# Altium footprint library Cap.PcbLib: 11 footprints
Each footprint in its own frame and in the unit in brackets; x right, y up, seen from the top. Pads: shape width x height; smd on the part's side, far side on the other; paste and mask are expansions set on the pad; w line width, h text height; cw(c..) or ccw(c..) is an arc to the next point about the centre after c.
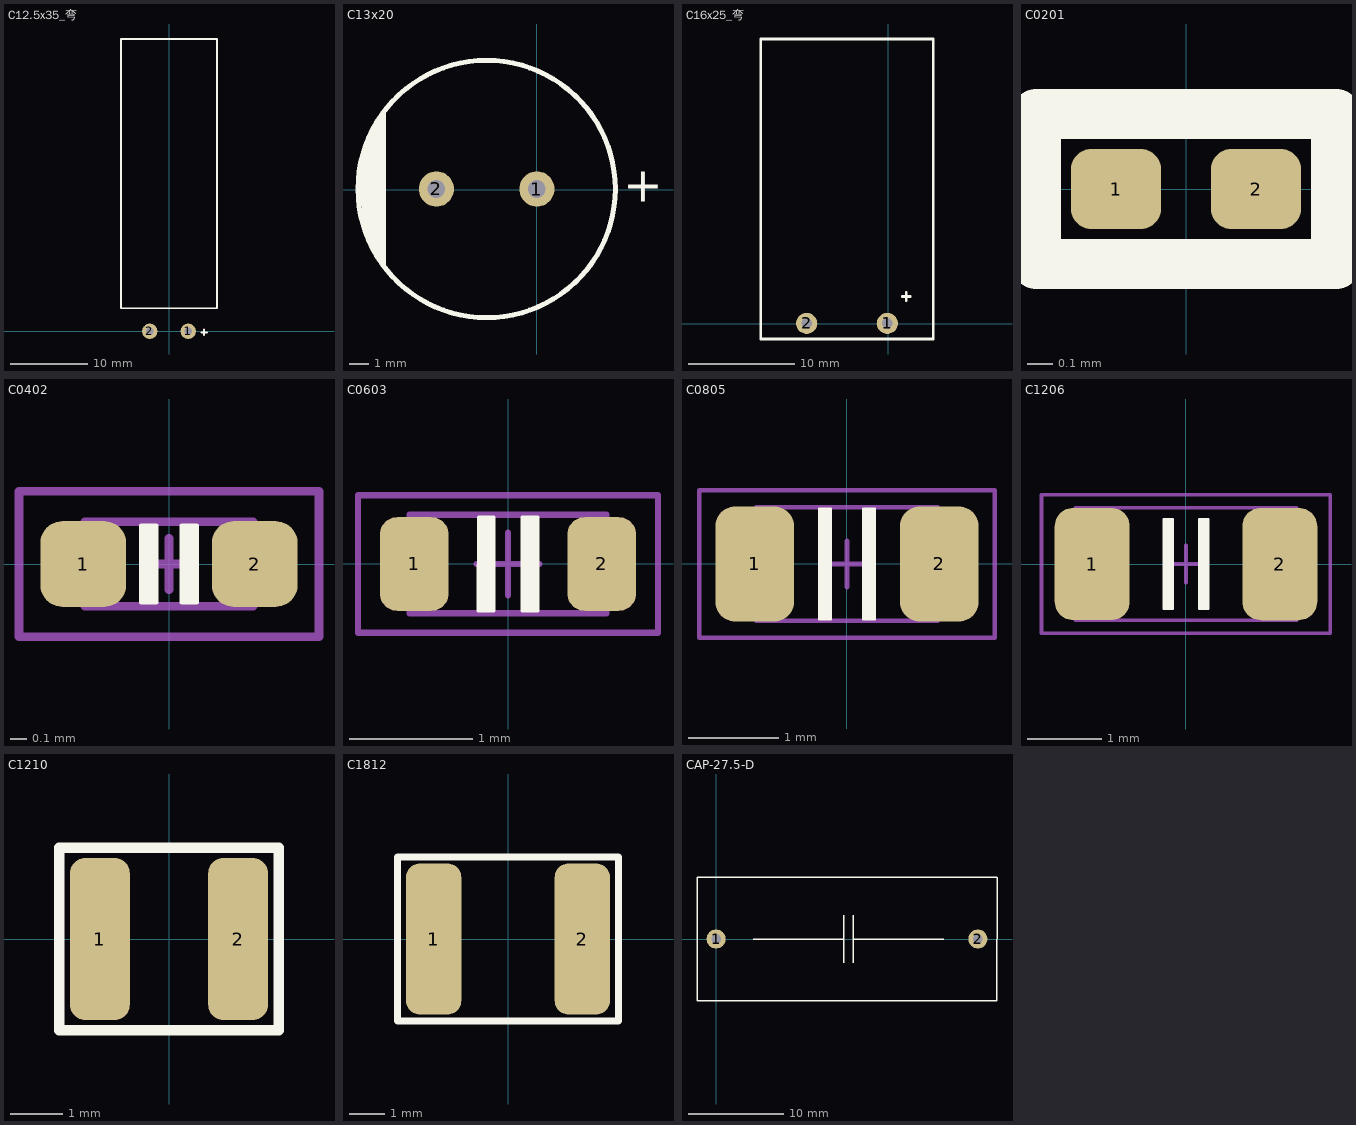
[diagram p0: the footprints below, top view; thin cyan lines are the x and y axes]

## C12.5x35_弯 [mm]
pads (2):
  round 2 hole 1: 1(2.5,0) 2(-2.5,0)
Top Overlay:
  lines w0.254: 4.191,-0.127 4.953,-0.127 ; 4.572,-0.508 4.572,0.254 ; -6.25,3 -6.25,38 6.25,38 6.25,3 -6.25,3
3D body: height 6.6, standoff -6.9, extent 2.102,-0.399 2.898,0.399
3D body: height 6.6, standoff -6.9, extent -2.898,-0.399 -2.101,0.399
3D body "User Library-CAPAER_D125_L350_P050_W006X030.X_T": height 12.53, standoff 0.03, extent -6.26,0 6.25,38.02

## C13x20 [mil]
pads (2):
  round 70 hole 35: 1(0,1) 2(-200,1)
Top Overlay:
  circle w10: c-100,1 r255.91
  rectangle: -312.01,-149 -300.01,152
  rectangle: -323.01,-132 -309.01,135
  rectangle: -332.01,-114 -314.01,121
  lines w10: -349,-29 -349,45 ; -343,-68 -343,72 ; -336,-97 -336,96
  text "+" at 172,-24 h68.9
3D body "Cap 12.5x20.STEP": height 786.92, standoff -748.03, extent -348.13,-245.13 144,247

## C16x25_弯 [mm]
pads (2):
  round 2 hole 1: 1(-0.076,0.025) 2(-7.696,0.025)
Top Overlay:
  lines w0.254: 1.321,2.565 2.083,2.565 ; 1.702,2.184 1.702,2.946 ; -12.04,-1.448 -12.04,26.899 4.267,26.899 4.267,-1.448 -12.04,-1.448
3D body: height 8.5, standoff -5, extent -0.492,-0.381 0.305,0.417
3D body: height 8.5, standoff -5, extent -8.093,-0.374 -7.296,0.425
3D body "User Library-Cap electrolitic radial 16x25.STEP": height 16.1, standoff 0.1, extent -11.879,0.238 4.115,26.738

## C0201 [mm]
pads (2):
  rrect50% 0.36x0.32 smd: 1(-0.28,0) 2(0.28,0)
Top Overlay:
  lines w0.2: -0.6,-0.3 -0.6,0.3 0.6,0.3 0.6,-0.3 -0.6,-0.3
3D body "02016D105KAT2A.stp": height 0.33, standoff 0, extent -0.3,-0.15 0.3,0.15

## C0402 [mil]
pads (2):
  rrect50% 20x20 smd: 1(-20,0) 2(20,0)
Top Overlay:
  region: 6.5,-9 3,-9 3,9 6.5,9
  region: -6.5,9 -3,9 -3,-9 -6.5,-9
  lines w1: -6.5,-9 -6.5,9 -3,9 -3,-9 -6.5,-9 ; 3,-9 6.5,-9 6.5,9 3,9 3,-9
Mechanical 13:
  lines w2: -6,0 6,0 ; 0,-6 0,6 ; -19.69,-9.84 19.68,-9.84 19.68,9.84 -19.69,9.84 -19.69,-9.84
Mechanical 14:
  lines w2: -35,-17 35,-17 35,17 -35,17 -35,-17
3D body "CAPC1005X05L.step": height 19.68, standoff 0, extent -19.68,-9.84 19.69,9.85

## C0603 [mil]
pads (2):
  rrect50% 22x30 smd: 1(-30,0) 2(30,0)
Top Overlay:
  region: -4.5,15 -9.5,15 -9.5,-15 -4.5,-15
  region: 4.5,-15 9.5,-15 9.5,15 4.5,15
  lines w1: -9.5,-15 -9.5,15 -4.5,15 -4.5,-15 -9.5,-15 ; 4.5,-15 9.5,-15 9.5,15 4.5,15 4.5,-15
Mechanical 13:
  lines w2: -10,0 10,0 ; 0,-10 0,10 ; -31.5,-15.75 -31.5,15.75 31.5,15.75 31.5,-15.75 -31.5,-15.75
Mechanical 14:
  lines w2: -48,-22 -48,22 48,22 48,-22 -48,-22
3D body "CAPC1608X08L.step": height 31.5, standoff 0, extent -31.49,-15.74 31.5,15.75

## C0805 [mil]
pads (2):
  rrect50% 34x50 smd: 1(-40,0) 2(40,0)
Top Overlay:
  region: 12,-24 7,-24 7,24 12,24
  region: -12,24 -7,24 -7,-24 -12,-24
  lines w1: -12,-24 -12,24 -7,24 -7,-24 -12,-24 ; 7,-24 12,-24 12,24 7,24 7,-24
Mechanical 13:
  lines w2: -10,0 10,0 ; 0,-10 0,10 ; -39.37,-24.61 39.37,-24.61 39.37,24.61 -39.37,24.61 -39.37,-24.61
Mechanical 14:
  lines w2: -64,-32 64,-32 64,32 -64,32 -64,-32
3D body "08055A101JAT2A.stp": height 37.01, standoff 0, extent -39.56,-24.6 39.57,24.61

## C1206 [mil]
pads (2):
  rrect50% 40x60 smd: 1(-50,0) 2(50,0)
Top Overlay:
  region: -12,24 -7,24 -7,-24 -12,-24
  region: 12,-24 7,-24 7,24 12,24
  lines w1: -12,-24 -7,-24 -7,24 -12,24 -12,-24 ; 7,-24 7,24 12,24 12,-24 7,-24
Mechanical 13:
  lines w2: -10,0 10,0 ; 0,-10 0,10 ; -59,-30 59,-30 59,30 -59,30 -59,-30
Mechanical 14:
  lines w2: -77,-37 -77,37 77,37 77,-37 -77,-37
3D body "(未保存).step": height 59.06, standoff 0, extent -59.05,-29.52 59.06,29.53

## C1210 [mil]
pads (2):
  rrect50% 45x122 smd: 1(-52,0) 2(52,0)
Top Overlay:
  lines w7.87: -82.68,-68.9 82.68,-68.9 82.68,68.9 -82.68,68.9 -82.68,-68.9
3D body "C1210C103J5GACTU.stp": height 106.3, standoff 0, extent -62.99,-49.21 62.99,49.22

## C1812 [mil]
pads (2):
  rrect50% 61x167 smd: 1(-82,0) 2(82,0)
Top Overlay:
  lines w7.87: -122.05,-90.55 -122.05,90.55 122.05,90.55 122.05,-90.55 -122.05,-90.55
3D body "C1812C101JHGACTU.stp": height 70.87, standoff 0, extent -88.58,-62.99 88.58,62.99

## CAP-27.5-D [mm]
pads (2):
  round 2 hole 1: 1(0,0) 2(27.5,0)
Top Overlay:
  lines w0.15: 3.901,0 13.401,0 ; 13.401,-2.5 13.401,2.5 ; 14.401,-2.5 14.401,2.5 ; 14.401,0 23.901,0 ; 29.5,6.5 -2,6.5 -2,-6.5 29.5,-6.5 29.505,6.5
3D body "CAP-27.5.STEP": height 1.05, standoff -22.45, extent -2,-6.5 29.5,6.5